# EAGLE library part SM07B-SRSS-TB (library con-jst-sh)
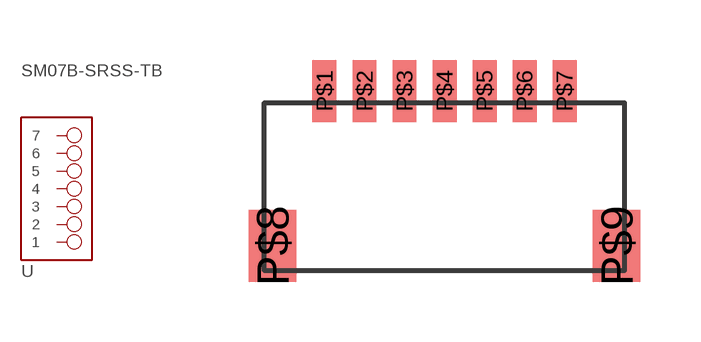
[diagram p0: symbol with the pads of SM07B-SRSS-TB; footprint SM07B-SRSS-TB]

Designator prefix -

## SM07B-SRSS-TB  [SM07B-SRSS-TB]
P$1  1
P$2  2
P$3  3
P$4  4
P$5  5
P$6  6
P$7  7

## Footprint SM07B-SRSS-TB (pad centres in mm)
smd 0.6 x 1.55: P$1 -3,0; P$2 -2,0; P$3 -1,0; P$4 0,0; P$5 1,0; P$6 2,0; P$7 3,0
smd 1.2 x 1.8: P$8 -4.3,-3.875; P$9 4.3,-3.875